# Altium schematic symbol library 自用.SchLib: 234 symbols (part 2 of 3)
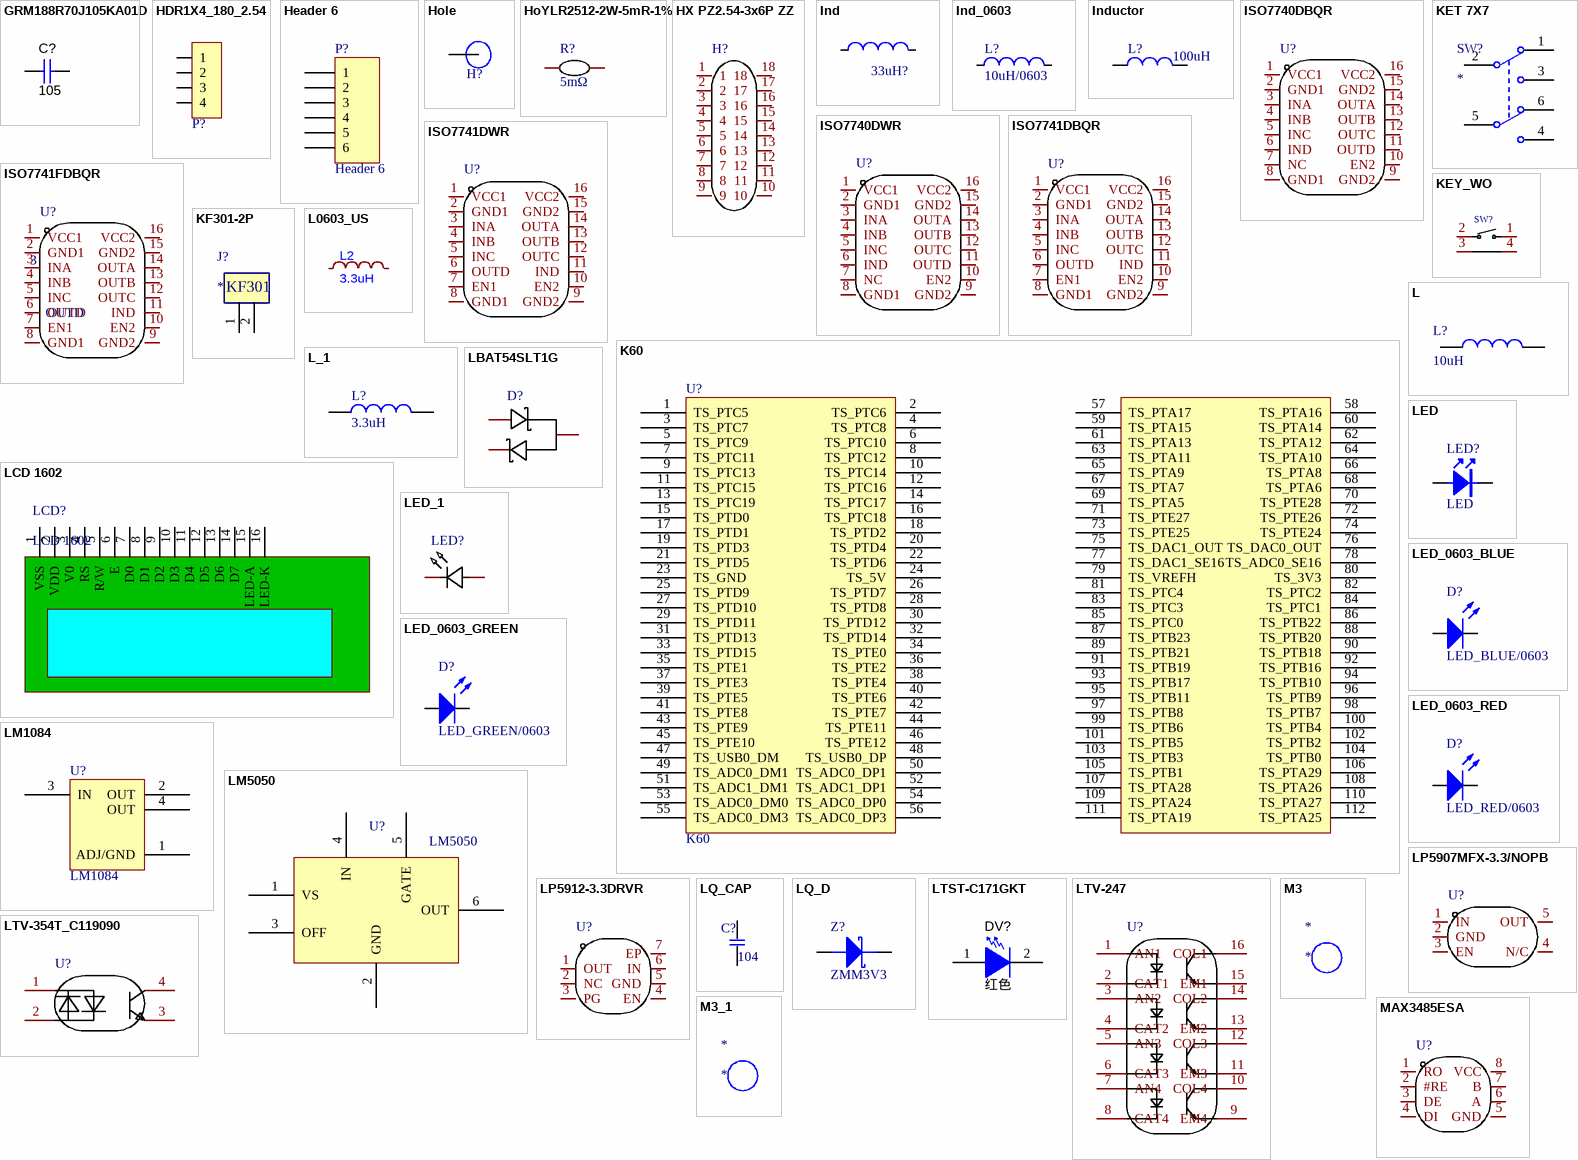
[diagram p9: symbols GRM188R70J105KA01D to MAX3485ESA]

## Inductor
designator L?  value 100uH  (hidden comment: Inductor)
电感; Code_IEC: 1005; Published: 8-Jun-2000; LatestRevisionDate: 17-Jul-2002; LatestRevisionNote: Re-released for DXP Platform.; PackageReference: 0402-A; Publisher: Altium Limited; Code_JEITA: 0402
footprint L_26C (贴片扁铜线电感)
footprint 一体成型17x17电感
footprint CD43 (4.5*4*3)
footprint CD106 (10*9*6.5mm（长宽高）)
footprint L 0402 (小功率贴片电感)
footprint L 0603 (小功率贴片电感)
footprint L 0805 (小功率贴片电感)
footprint L 1206 (小功率贴片电感)
footprint L 1210 (小功率贴片电感)
footprint L 1806 (小功率贴片电感)
footprint L 1812 (小功率贴片电感)
footprint L-SMD-0630 (一体化成型电感)
footprint 磁棒滤波电感 (1uH-1.2线-6.5圈-6*15)
footprint CDRH74 (7.3*7.3*4.5mm（长宽高）)
footprint CDRH127 (12*12*8mm（长宽高）)
footprint CD54 (5.8*5.2*4.5mm（长宽高）)
footprint 磁环电感-37mm (大电流磁环电感)
footprint L1809 (18.2*18.2*9mm)
footprint CD-54
pins: 1, 2

## ISO7740DBQR
designator U?  (value not drawn)
ISO7740 EMC 性能优异的四通道、4/0、增强型数字隔离器; Manufacturer: TI(德州仪器); Add into BOM: yes; Number of Forward Channels: 4; Number of Reverse Channels: 0; Data Rate(Max): 100Mbps; Isolation Voltage(Vrms): 3000; CMTI(kV/us): 100kV/us; Voltage - Supply(VCCA): 2.25V~5.5V; Propagation Delay(tpd): 10.7ns; Symbol: ISO7740DBQR; Device: ISO7740DBQR; LCSC Part Name: EMC性能优异的增强型高速四通道数字隔离器; Supplier Part: C2877511; Manufacturer Part: ISO7740DBQR; Supplier Footprint: SSOP-16-150mil; JLCPCB Part Class: Extended Part; Datasheet: https://www.ti.com/cn/lit/gpn/iso7740; Supplier: LCSC; Convert to PCB: yes; Default Output: -; Operating Temperature: -55~+125; Voltage - Supply(VCCB): 2.25V~5.5V
footprint SSOP-16_L4.9-W3.9-P0.64-LS6.0-BL
3D model SSOP-16_L4.9-W3.9-H1.75-LS6.0_P0.64
pins: 1 VCC1, 2 GND1, 3 INA, 4 INB, 5 INC, 6 IND, 7 NC, 8 GND1, 9 GND2, 10 EN2, 11 OUTD, 12 OUTC, 13 OUTB, 14 OUTA, 15 GND2, 16 VCC2

## ISO7740DWR
designator U?  (value not drawn)
ISO7740 EMC 性能优异的四通道、4/0、增强型数字隔离器; Manufacturer: TI(德州仪器); Add into BOM: yes; Number of Forward Channels: 4; Number of Reverse Channels: 0; Data Rate(Max): 100Mbps; Default Output: 高电平; Isolation Voltage(Vrms): 5000; CMTI(kV/us): 100kV/us; Voltage - Supply(VCCA): 2.25V~5.5V; Propagation Delay(tpd): 10.7ns; Symbol: ISO7740DWR; Device: ISO7740DWR; LCSC Part Name: 具有优异EMC性能的高速四通道增强型和基本型数字隔离器; Supplier Part: C529547; Manufacturer Part: ISO7740DWR; Supplier Footprint: SOIC-16-300mil; JLCPCB Part Class: Extended Part; Datasheet: https://www.ti.com/cn/lit/gpn/iso7740; Supplier: LCSC; Convert to PCB: yes; Operating Temperature: -55~+125; Voltage - Supply(VCCB): 2.25V~5.5V
footprint SOIC-16_L10.3-W7.5-P1.27-LS10.3-BL
3D model SOIC-16_L10.3-W7.5-H2.7-LS10.3-P1.27
pins: 1 VCC1, 2 GND1, 3 INA, 4 INB, 5 INC, 6 IND, 7 NC, 8 GND1, 9 GND2, 10 EN2, 11 OUTD, 12 OUTC, 13 OUTB, 14 OUTA, 15 GND2, 16 VCC2

## ISO7741DBQR
designator U?  (value not drawn)
ISO7741 EMC 性能优异的四通道、3/1、增强型数字隔离器; Manufacturer: TI(德州仪器); Add into BOM: yes; Number of Forward Channels: 3; Number of Reverse Channels: 1; Data Rate(Max): 100Mbps; Default Output: 高电平; Isolation Voltage(Vrms): 3000; CMTI(kV/us): 100kV/us; Voltage - Supply(VCCA): 2.25V~5.5V; Propagation Delay(tpd): 10.7ns; Symbol: ISO7741DBQR; Device: ISO7741DBQR; LCSC Part Name: EMC性能优异的增强型高速四通道数字隔离器; Supplier Part: C913840; Manufacturer Part: ISO7741DBQR; Supplier Footprint: SSOP-16-150mil; JLCPCB Part Class: Extended Part; Datasheet: https://www.ti.com/cn/lit/gpn/iso7740; Supplier: LCSC; Convert to PCB: yes; Operating Temperature: -55~+125; Voltage - Supply(VCCB): 2.25V~5.5V
footprint SSOP-16_L4.9-W3.9-P0.64-LS6.0-BL
3D model SSOP-16_L4.9-W3.9-H1.75-LS6.0_P0.64
pins: 1 VCC1, 2 GND1, 3 INA, 4 INB, 5 INC, 6 OUTD, 7 EN1, 8 GND1, 9 GND2, 10 EN2, 11 IND, 12 OUTC, 13 OUTB, 14 OUTA, 15 GND2, 16 VCC2

## ISO7741DWR
designator U?  (value not drawn)
ISO7741 EMC 性能优异的四通道、3/1、增强型数字隔离器; Manufacturer: TI(德州仪器); Add into BOM: yes; Number of Forward Channels: 3; Number of Reverse Channels: 1; Data Rate(Max): 100Mbps; Default Output: 高电平; Isolation Voltage(Vrms): 5000; CMTI(kV/us): 100kV/us; Voltage - Supply(VCCA): 2.25V~5.5V; Propagation Delay(tpd): 10.7ns; Symbol: ISO7741DWR; Device: ISO7741DWR; LCSC Part Name: ISOW774x 高速、强抗电磁干扰增强型和基本型四通道数字隔离器; Supplier Part: C571196; Manufacturer Part: ISO7741DWR; Supplier Footprint: SOIC-16-300mil; JLCPCB Part Class: Extended Part; Datasheet: https://www.ti.com/cn/lit/gpn/iso7741; Supplier: LCSC; Convert to PCB: yes; Operating Temperature: -55~+125; Voltage - Supply(VCCB): 2.25V~5.5V
footprint SOIC-16_L10.3-W7.5-P1.27-LS10.3-BL
3D model SOIC-16_L10.3-W7.5-H2.7-LS10.3-P1.27
pins: 1 VCC1, 2 GND1, 3 INA, 4 INB, 5 INC, 6 OUTD, 7 EN1, 8 GND1, 9 GND2, 10 EN2, 11 IND, 12 OUTC, 13 OUTB, 14 OUTA, 15 GND2, 16 VCC2

## ISO7741FDBQR
designator U?  NAME: OUTD  NUMBER: 3  (hidden comment: ISO7741FDBQR)
ISO7741 EMC 性能优异的四通道、3/1、增强型数字隔离器; Manufacturer: TI(德州仪器); Add into BOM: yes; Number of Reverse Channels: 1; Data Rate(Max): 100Mbps; Isolation Voltage(Vrms): 3000; CMTI(kV/us): 100kV/us; Voltage - Supply(VCCA): 2.25V~5.5V; Propagation Delay(tpd): 10.7ns; Symbol: ISO7741FDBQR; Device: ISO7741FDBQR; LCSC Part Name: EMC性能优异的增强型高速四通道数字隔离器; Supplier Part: C2872241; Manufacturer Part: ISO7741FDBQR; Supplier Footprint: SSOP-16-150mil; JLCPCB Part Class: Extended Part; Datasheet: https://www.ti.com/cn/lit/gpn/iso7740; Supplier: LCSC; Convert to PCB: yes; Number of Forward Channels: 3; Default Output: -; Operating Temperature: -55~+125; Voltage - Supply(VCCB): 2.25V~5.5V
footprint SSOP-16_L4.9-W3.9-P0.64-LS6.0-BL
3D model SSOP-16_L4.9-W3.9-H1.75-LS6.0_P0.64
pins: 1 VCC1, 2 GND1, 3 INA, 4 INB, 5 INC, 6 OUTD, 7 EN1, 8 GND1, 9 GND2, 10 EN2, 11 IND, 12 OUTC, 13 OUTB, 14 OUTA, 15 GND2, 16 VCC2

## K60
designator U?
NXPK60芯片
footprint CONN-TH_XT30UPB-M
pins: 1 TS_PTC5, 2 TS_PTC6, 3 TS_PTC7, 4 TS_PTC8, 5 TS_PTC9, 6 TS_PTC10, 7 TS_PTC11, 8 TS_PTC12, 9 TS_PTC13, 10 TS_PTC14, 11 TS_PTC15, 12 TS_PTC16, 13 TS_PTC19, 14 TS_PTC17, 15 TS_PTD0, 16 TS_PTC18, 17 TS_PTD1, 18 TS_PTD2, 19 TS_PTD3, 20 TS_PTD4, 21 TS_PTD5, 22 TS_PTD6, 23 TS_GND, 24 TS_5V, 25 TS_PTD9, 26 TS_PTD7, 27 TS_PTD10, 28 TS_PTD8, 29 TS_PTD11, 30 TS_PTD12, 31 TS_PTD13, 32 TS_PTD14, 33 TS_PTD15, 34 TS_PTE0, 35 TS_PTE1, 36 TS_PTE2, 37 TS_PTE3, 38 TS_PTE4, 39 TS_PTE5, 40 TS_PTE6, 41 TS_PTE8, 42 TS_PTE7, 43 TS_PTE9, 44 TS_PTE11, 45 TS_PTE10, 46 TS_PTE12, 47 TS_USB0_DM, 48 TS_USB0_DP, 49 TS_ADC0_DM1, 50 TS_ADC0_DP1, 51 TS_ADC1_DM1, 52 TS_ADC1_DP1, 53 TS_ADC0_DM0, 54 TS_ADC0_DP0, 55 TS_ADC0_DM3, 56 TS_ADC0_DP3, 57 TS_PTA17, 58 TS_PTA16, 59 TS_PTA15, 60 TS_PTA14, 61 TS_PTA13, 62 TS_PTA12, 63 TS_PTA11, 64 TS_PTA10, 65 TS_PTA9, 66 TS_PTA8, 67 TS_PTA7, 68 TS_PTA6, 69 TS_PTA5, 70 TS_PTE28, 71 TS_PTE27, 72 TS_PTE26, 73 TS_PTE25, 74 TS_PTE24, 75 TS_DAC1_OUT, 76 TS_DAC0_OUT, 77 TS_DAC1_SE16, 78 TS_ADC0_SE16, 79 TS_VREFH, 80 TS_3V3, 81 TS_PTC4, 82 TS_PTC2, 83 TS_PTC3, 84 TS_PTC1, 85 TS_PTC0, 86 TS_PTB22, 87 TS_PTB23, 88 TS_PTB20, 89 TS_PTB21, 90 TS_PTB18, 91 TS_PTB19, 92 TS_PTB16, 93 TS_PTB17, 94 TS_PTB10, 95 TS_PTB11, 96 TS_PTB9, 97 TS_PTB8, 98 TS_PTB7, 99 TS_PTB6, 100 TS_PTB4, 101 TS_PTB5, 102 TS_PTB2, 103 TS_PTB3, 104 TS_PTB0, 105 TS_PTB1, 106 TS_PTA29, 107 TS_PTA28, 108 TS_PTA26, 109 TS_PTA24, 110 TS_PTA27, 111 TS_PTA19, 112 TS_PTA25

## KET 7X7
designator SW?
7*7自锁开关; 版权归属: 源创客; BOM名称: 7*7自锁开关; 学习资源: www.ooocke.com
footprint KFT DIP-7X7 (自锁开关，规格：7*7mm)
footprint KFT DIP-8X8 (自锁开关，规格：8*8mm)
pins: 1 NC1, 2 COM2, 3 NO1, 4 NO2, 5 COM2, 6 NC2

## KEY_WO
designator SW?, comment TC-6615-7-260G  (value not drawn)
触点电流:50mA;额定电压(AC):-;额定电压(DC):12V;额定功率:-;绝缘电阻:-;电路结构:单刀单掷;安装方式:卧插;带灯:-;作用力:260gf@±50gf;机械寿命:-;带支架:-;; Manufacturer: HCTL(华灿天禄); Add into BOM: yes; Contact Current: 50mA; Voltage Rating (DC): 12V; Circuit: 单刀单掷; Switch Length: 6mm; Switch Height: 7mm; Symbol: TC-6615-7-260G; Device: TC-6615-7-260G; LCSC Part Name: 轻触6*6*7支架 插件260g; Supplier Part: C2845275; Manufacturer Part: TC-6615-7-260G; Supplier Footprint: 插件; JLCPCB Part Class: Extended Part; Supplier: LCSC; Convert to PCB: yes; Voltage Rating (AC): -; Power Rating: -; Insulation Resistance: -; Mounting Style: 卧插; Actuator Style: -; Actuator/Cap Color: -; With Lamp: -; Operating Force: 260gf@±50gf; Mechanical Life: -; Operating Temperature: -; IP Rating: -; Pin Style: -; Switch Width: 6mm; Strike Gundam: -
3D model KEY-TH_TC-6615-7-160G
footprint KEY_WO
pins: 1, 2, 3, 4

## KF301-2P
designator J?
footprint KF301-5.0-2P (可拼接端子/6A)
pins: 1, 2
text: KF301

## L
designator L?, comment 10uH
电感; BOM名称: 小功率贴片电感; 版权归属: 源创客; 学习资源: www.ooocke.com
footprint L 0603 (小功率贴片电感)
footprint L 0805 (小功率贴片电感)
footprint AL0510 (16*5*10.5mm（脚距，直径，长度）)
footprint 飞卡电感
pins: 1, 2

## L0603_US
designator L2, comment 3.3uH
footprint IND-SMD_L7.8-W7.0_MAPM0630F
pins: 1, 2

## L_1
designator L?, comment 3.3uH
电感; BOM名称: 小功率贴片电感; 版权归属: 源创客; 学习资源: www.ooocke.com
footprint L 0603 (小功率贴片电感)
footprint L 0805 (小功率贴片电感)
footprint AL0510 (16*5*10.5mm（脚距，直径，长度）)
footprint 飞卡电感
footprint CDRH74 (7.3*7.3*4.5mm（长宽高）)
footprint 0630-L
footprint IND-SMD_L7.8-W7.0_MAPM0630F
pins: 1, 2

## LBAT54SLT1G
designator D?  (value not drawn)
正向压降(Vf):400mV;直流反向耐压(Vr):30V;整流电流:200mA;; Manufacturer: LRC(乐山无线电); Add into BOM: yes; Voltage - Forward(Vf@If): 400mV; Voltage - DC Reverse(Vr): 30V; Current - Rectified: 200mA; Reverse Leakage Current (Ir): 2uA; Non-Repetitive Peak Forward Surge Current: 600mA; Symbol: LBAT54SLT1G; Device: LBAT54SLT1G; LCSC Part Name: 电压:30V 电流:200mA; Supplier Part: C12765; Manufacturer Part: LBAT54SLT1G; Supplier Footprint: SOT-23; JLCPCB Part Class: Extended Part; Datasheet: https://item.szlcsc.com/datasheet/LBAT54SLT1G/13406.html; Supplier: LCSC; Convert to PCB: yes
footprint SOT-23_L2.9-W1.3-P1.90-LS2.4-BR
3D model SOT-23-3P_L2.9-W1.3-H1.0-LS2.4-P0.95
pins: 1 A, 2 K, 3 AK

## LCD 1602
designator LCD?
版权归属: 源创客; BOM名称: LCD 1602; 学习资源: www.ooocke.com
footprint LCD-1602 (LCD module 16*2 char)
pins: 1 VSS, 2 VDD, 3 V0, 4 RS, 5 R/W, 6 E, 7 D0, 8 D1, 9 D2, 10 D3, 11 D4, 12 D5, 13 D6, 14 D7, 15 LED-A, 16 LED-K

## LED
designator LED?
发光二极管
footprint LED 3MM-W (白色3mm直插LED)
footprint LED 5MM-Y (黄色5mm直插LED)
footprint LED 0603B (蓝色0603LED)
footprint LED 0805W (白色0805LED)
footprint LED 1206W (白色1206LED)
pins: 1, 2
2 alternate drawings of the same symbol

## LED_1
designator LED?, comment XL-1005SURC  (value not drawn)
发光颜色:红色;功率:55mW;正向电流:25mA;主波长:620nm;透镜颜色:无色透明透镜;色温:6000K~7000K;发光角度:120°;载带方式:正贴;工作温度:-30~+85;; Manufacturer: XINGLIGHT(成兴光); Add into BOM: yes; Emitted Color: 红色; Power Dissipation: 55mW; Forward Current: 25mA; Dominant Wavelength: 620nm; Peak Wavelength: 625nm; Lens Color: 无色透明透镜; Viewing Angle: 120°; Mounting Sytle: 正贴; Symbol: XL-1005SURC; Device: XL-1005SURC; LCSC Part Name: XL-1005SURC; Supplier Part: C965790; Manufacturer Part: XL-1005SURC; Supplier Footprint: 0402; JLCPCB Part Class: Extended Part; Datasheet: https://atta.szlcsc.com/upload/public/pdf/source/20221102/EBA3AB29C2D5B62EE70B36967F8F8809.pdf; Supplier: LCSC; Convert to PCB: yes; Color Temperature: 6000K~7000K; Operating Temperature: -30~+85
footprint LED0402-R-RD_RED
3D model LED0402_L1.0-W0.5-H0.4
pins: 1 K, 2 A

## LED_0603_BLUE
designator D?  value LED_BLUE/0603  (hidden comment: LED_0603_BLUE)
LED
footprint LED_0603_BLUE (Chip Capacitor, 2-Leads, Body 1.6x0.8mm, IPC Medium Density)
pins: 1 A, 2 K

## LED_0603_GREEN
designator D?  value LED_GREEN/0603  (hidden comment: LED_0603_GREEN)
LED
footprint LED_0603_GREEN (Chip Capacitor, 2-Leads, Body 1.6x0.8mm, IPC Medium Density)
pins: 1 A, 2 K

## LED_0603_RED
designator D?  value LED_RED/0603  (hidden comment: LED_0603_RED)
LED
footprint LED_0603_RED (Chip Capacitor, 2-Leads, Body 1.6x0.8mm, IPC Medium Density)
pins: 1 A, 2 K

## LM1084
designator U?
-5,-3.3,-ADJ
footprint TO263-3A (263，3脚晶体管)
pins: 1 ADJ/GND, 2 OUT, 3 IN, 4 OUT

## LM5050
designator U?
High-Side OR-ing FET Controller
footprint SOT23-6
pins: 1 VS, 2 GND, 3 OFF, 4 IN, 5 GATE, 6 OUT

## LP5907MFX-3.3/NOPB
designator U?  (value not drawn)
输出类型:固定;最大输入电压:5.5V;输出电压:3.3V;输出电流:250mA;电源纹波抑制比(PSRR):90dB@(100Hz)；60dB@(100kHz);输出极性:正极;; Manufacturer: TI(德州仪器); Add into BOM: yes; Output Type: 固定; Maximum Input Voltage: 5.5V; Output Voltage: 3.3V; Output Current: 250mA; Dropout Voltage: 250mV@(250mA); standby current: 25uA; Output Polarity: 正极; Number of Outputs: 1; Symbol: LP5907MFX-3.3/NOPB; Device: LP5907MFX-3.3/NOPB; LCSC Part Name: 具有低 IQ 和使能功能的 250mA、低噪声、高 PSRR、超低压降稳压器; Supplier Part: C80670; Manufacturer Part: LP5907MFX-3.3/NOPB; Supplier Footprint: SOT-23-5; JLCPCB Part Class: Extended Part; Datasheet: https://www.ti.com/cn/lit/gpn/lp5907; Supplier: LCSC; Convert to PCB: yes; Power Supply Rejection Ratio (PSRR): 90dB@(100Hz)；60dB@(100kHz); Feature: 防静电保护；短路保护；自动放电功能；低ESR；热保护(TSD)；欠压闭锁；带使能; Operating Temperature: -40~+125
footprint SOT-23-5_L3.0-W1.7-P0.95-LS2.8-BR
3D model SOT-23-5_L2.9-W1.6-H1.1-LS2.8-P0.95
pins: 1 IN, 2 GND, 3 EN, 4 N/C, 5 OUT

## LP5912-3.3DRVR
designator U?  (value not drawn)
输出类型:固定;最大输入电压:6.5V;输出电压:3.3V;输出电流:500mA;输出极性:正极;; Manufacturer: TI(德州仪器); Add into BOM: yes; Output Type: 固定; Maximum Input Voltage: 6.5V; Output Voltage: 3.3V; Output Current: 500mA; Dropout Voltage: 180mV@(500mA); standby current: 55uA; Output Polarity: 正极; Number of Outputs: 1; Symbol: LP5912-3.3DRVR; Device: LP5912-3.3DRVR; LCSC Part Name: 具有反向电流保护功能的 500mA、低噪声、低 IQ、低压降稳压器; Supplier Part: C524780; Manufacturer Part: LP5912-3.3DRVR; Supplier Footprint: WSON-6-EP(2x2); JLCPCB Part Class: Extended Part; Datasheet: https://www.ti.com/cn/lit/gpn/lp5912; Supplier: LCSC; Convert to PCB: yes; Feature: 防静电保护；短路保护；自动放电功能；低ESR；热保护(TSD)；欠压闭锁；过流保护(OCP)；带使能；防倒灌; Operating Temperature: -40~+125@(Tj)
footprint WSON-6_L2.0-W2.0-P0.65-TL-EP
3D model WSON-6_L2.0-W2.0-H0.8-P0.65
pins: 1 OUT, 2 NC, 3 PG, 4 EN, 5 GND, 6 IN, 7 EP

## LQ_CAP
designator C?, comment 104
CAP
footprint LQ_0805
footprint LQ_C0603
footprint LQ_1206
footprint LQ_1210
pins: 1, 2

## LQ_D
designator Z?, comment ZMM3V3
Schottky Diode
footprint LQ_1206
footprint LQ_1812
footprint LQ_1206D
pins: 1, 2 1

## LTST-C171GKT
designator DV?, comment 红色
Manufacturer: Lite-On; PartNumber: LTST-C171GKT; CompType: LED; Value: Green; Vf_V: 2.1; Value2: 2.1V; Io_A: 20; Value1: W; U/M: EA; SymbolVersion: 2008-12-08; MountType: SMT; RoHS: Y; PackageReference: LED_0805; Type: AlInGaP; Color: green; Published: 2008-07-11; Publisher: Texas Instruments; ComponentLink1URL: https://sps06.itg.ti.com/sites/KMS/crossdivteams/altium/docs/ComponentDatasheets/LTST-C171GKT.pdf; ComponentLink1Description: Datasheet link; LatestRevisionDate: 2013-09-07; Supplier 1: Digi-Key; Supplier Part Number 1: 160-1423-1-ND; Supplier 2: Mouser; Supplier Part Number 2: 859-LTST-C171GKT
signal-integrity model Diode
footprint LED_LTST-C171
footprint LQ_LED0603R
pins: 1 A, 2 K

## LTV-247
designator U?  (value not drawn)
输入类型:DC;正向压降(Vf):1.2V;输出电流:50mA;隔离电压(Vrms):3.75kV;直流反向耐压(Vr):6V;负载电压:80V;输出通道数:1;集射极饱和电压(VCE(sat)):400mV@2.4mA,8mA;; Manufacturer: LITEON(光宝); Add into BOM: yes; Input type: DC; Output Type: 光电三极管; Voltage - Forward(Vf): 1.2V; Output Current: 50mA; Isolation Voltage(Vrms): 3.75kV; Reverse Voltage: 6V; Load Voltage: 80V; Number of Outputs: 1; Fall time: 3us; Current Transfer Ratio (CTR) Minimum: 100%; Current Transfer Ratio (CTR) Maximum/Saturation Value: 600%; Total Power Dissipation(Pd): 170mW; Symbol: LTV-247; Device: LTV-247; LCSC Part Name: DC输入 隔离电压(rms):3750V; Supplier Part: C115451; Manufacturer Part: LTV-247; Supplier Footprint: SOP-16-5.4mm; JLCPCB Part Class: Extended Part; Datasheet: https://item.szlcsc.com/datasheet/LTV-247/116699.html; Supplier: LCSC; Convert to PCB: yes; Vce Saturation(VCE(sat)): 400mV@2.4mA,8mA; Rise time: -; Operating Temperature: -55~+110; Forward Current(If): 50mA
footprint SOP-16_L10.3-W5.4-P1.27-LS7.8-BL
3D model SOP-16_L10.0-W4.4-H1.9-LS6.3-P1.27
pins: 1 AN1, 2 CAT1, 3 AN2, 4 CAT2, 5 AN3, 6 CAT3, 7 AN4, 8 CAT4, 9 EM4, 10 COL4, 11 EM3, 12 COL3, 13 EM2, 14 COL2, 15 EM1, 16 COL1

## LTV-354T_C119090
designator U?  (value not drawn)
输入类型:AC,DC;正向压降(Vf):1.2V;输出电流:50mA;隔离电压(Vrms):3.75kV;直流反向耐压(Vr):-;负载电压:35V;输出通道数:1;集射极饱和电压(VCE(sat)):100mV@20mA,1mA;; Manufacturer: LITEON(光宝); Add into BOM: yes; Input type: AC,DC; Output Type: 光电三极管; Voltage - Forward(Vf): 1.2V; Output Current: 50mA; Isolation Voltage(Vrms): 3.75kV; Load Voltage: 35V; Number of Outputs: 1; Rise time: 4us; Fall time: 3us; Current Transfer Ratio (CTR) Minimum: 20%; Current Transfer Ratio (CTR) Maximum/Saturation Value: 400%; Total Power Dissipation(Pd): 170mW; Symbol: LTV-354T; Device: LTV-354T_C119090; LCSC Part Name: AC,DC输入 隔离电压(rms):3750V; Supplier Part: C119090; Manufacturer Part: LTV-354T; Supplier Footprint: SOP-4-2.54mm; JLCPCB Part Class: Extended Part; Datasheet: https://item.szlcsc.com/datasheet/LTV-354T/120359.html; Supplier: LCSC; Convert to PCB: yes; Reverse Voltage: -; Vce Saturation(VCE(sat)): 100mV@20mA,1mA; Operating Temperature: -55~+100; Forward Current(If): 50mA
footprint SOP-4_L4.4-W3.9-P2.54-LS7.0-TL
3D model SOP-4_L4.4-W3.9-P2.54-LS7.0-TL
pins: 1 A/C, 2 C/A, 3 EM, 4 COL

## M3
designator *
铜柱孔; 版权归属: 源创客; BOM名称: 铜柱孔; 学习资源: www.ooocke.com
footprint M3 140X350 (M3螺丝孔，孔140Mil，焊盘350Mil)
footprint M3 125X300 (M3螺丝孔，孔125Mil，焊盘300Mil)
footprint M3 125X200 (M3螺丝孔，孔125Mil，焊盘200Mil)

## M3_1
designator *
铜柱孔; 版权归属: 源创客; BOM名称: 铜柱孔; 学习资源: www.ooocke.com
footprint M3 140X350 (M3螺丝孔，孔140Mil，焊盘350Mil)
footprint M3 125X300 (M3螺丝孔，孔125Mil，焊盘300Mil)
footprint M3 125X200 (M3螺丝孔，孔125Mil，焊盘200Mil)
footprint M3 125X250 (M3螺丝孔，孔125Mil，焊盘300Mil)
pins: 1

## MAX3485ESA
designator U?  (value not drawn)
类型:收发器;数据速率:12Mbps;驱动器/接收器:1/1;; Manufacturer: UMW(友台半导体); Add into BOM: yes; Types: 收发器; Supply Voltage: 2.97V~3.63V; Data Rate: 12Mbps; Driver/receiver: 1/1; Symbol: MAX3485ESA; Device: MAX3485ESA; LCSC Part Name: MAX3485ESA; Supplier Part: C668204; Manufacturer Part: MAX3485ESA; Supplier Footprint: SOP-8; JLCPCB Part Class: Extended Part; Datasheet: https://atta.szlcsc.com/upload/public/pdf/source/20231109/DDD7CD3D891754087D6BC3897133907F.pdf; Supplier: LCSC; Convert to PCB: yes; Operating Temperature: -40~+85
footprint SOP-8_L5.0-W4.0-P1.27-LS6.0-BL (Footprint not found)
3D model SOP-8_L5.0-W4.0-H1.8-LS6.2-P1.27
pins: 1 RO, 2 #RE, 3 DE, 4 DI, 5 GND, 6 A, 7 B, 8 VCC

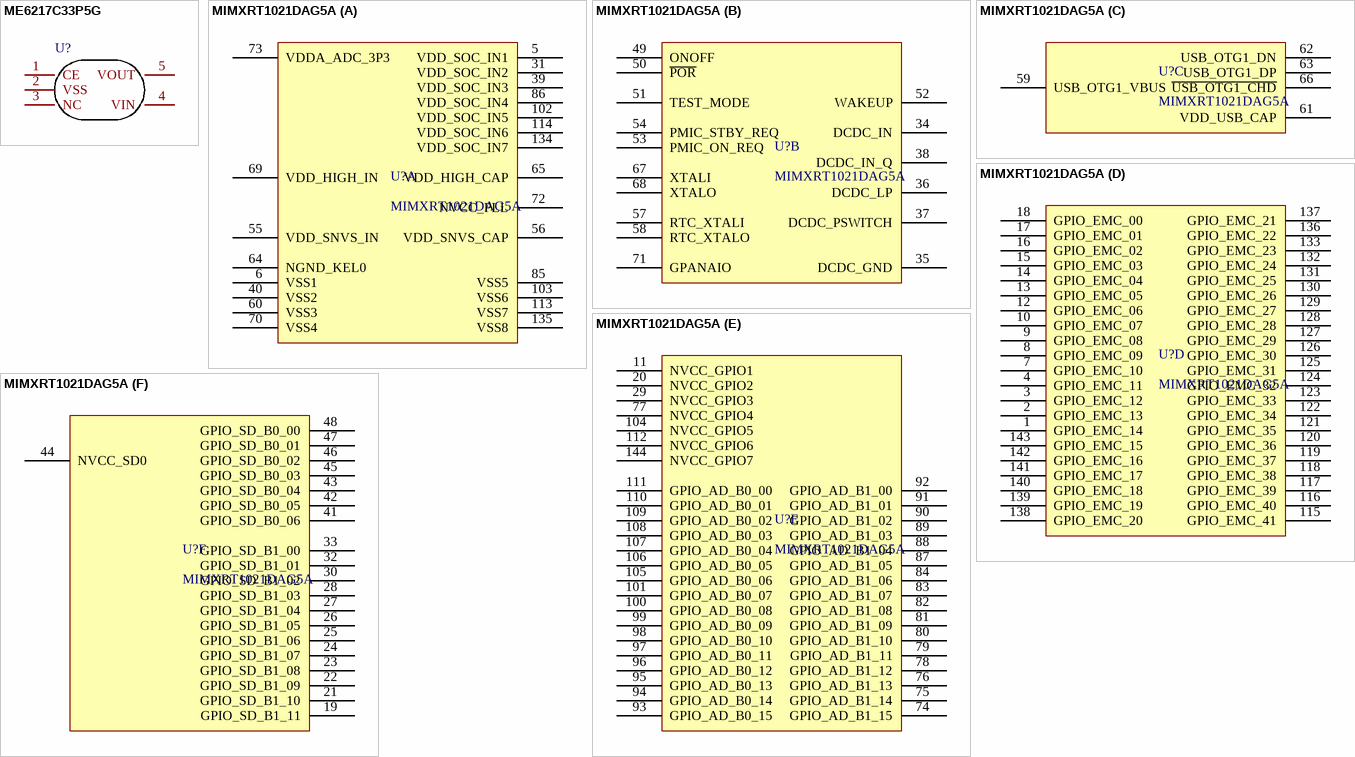
[diagram p3: symbols ME6217C33P5G to MIMXRT1021DAG5A]

## ME6217C33P5G
designator U?  (value not drawn)
输出类型:固定;工作电压:6.5V;输出电压:3.3V;输出电流:800mA;电源纹波抑制比(PSRR):65dB@(1kHz);输出极性:正极;; Manufacturer: MICRONE(南京微盟); Add into BOM: yes; Output Type: 固定; Voltage - Supply: 6.5V; Output Voltage: 3.3V; Output Current: 800mA; Voltage Dropout: 100mV@(300mA); standby current: 100uA; Output Configuration: 正极; Number of Outputs: 1; Symbol: ME6217C33P5G; Device: ME6217C33P5G; LCSC Part Name: 输入6.5V 输出3.3V 800mA; Supplier Part: C81592; Manufacturer Part: ME6217C33P5G; Supplier Footprint: SOT-89-5; JLCPCB Part Class: Extended Part; Datasheet: https://item.szlcsc.com/datasheet/ME6217C33P5G/82744.html; Supplier: LCSC; Convert to PCB: yes; Power Supply Rejection Ratio (PSRR): 65dB@(1kHz); Features: 过热保护；过流保护; Operating Temperature: -40~+85
footprint SOT-89-5_L4.5-W2.5-P1.50-LS4.5-BR
3D model SOT-89-5_L4.5-W2.5-H1.5-LS4.1-P1.50
pins: 1 CE, 2 VSS, 3 NC, 4 VIN, 5 VOUT

## MIMXRT1021DAG5A
designator U?
MIMXRT1021DAG5A 分体式原理
footprint LQFP144_N (Footprint not found)
part A pins: 5 VDD_SOC_IN1, 6 VSS1, 31 VDD_SOC_IN2, 39 VDD_SOC_IN3, 40 VSS2, 55 VDD_SNVS_IN, 56 VDD_SNVS_CAP, 60 VSS3, 64 NGND_KEL0, 65 VDD_HIGH_CAP, 69 VDD_HIGH_IN, 70 VSS4, 72 NVCC_PLL, 73 VDDA_ADC_3P3, 85 VSS5, 86 VDD_SOC_IN4, 102 VDD_SOC_IN5, 103 VSS6, 113 VSS7, 114 VDD_SOC_IN6, 134 VDD_SOC_IN7, 135 VSS8
part B pins: 34 DCDC_IN, 35 DCDC_GND, 36 DCDC_LP, 37 DCDC_PSWITCH, 38 DCDC_IN_Q, 49 ONOFF, 50 ~{POR}, 51 TEST_MODE, 52 WAKEUP, 53 PMIC_ON_REQ, 54 PMIC_STBY_REQ, 57 RTC_XTALI, 58 RTC_XTALO, 67 XTALI, 68 XTALO, 71 GPANAIO
part C pins: 59 USB_OTG1_VBUS, 61 VDD_USB_CAP, 62 USB_OTG1_DN, 63 USB_OTG1_DP, 66 ~{USB_OTG1_CHD}
part D pins: 1 GPIO_EMC_14, 2 GPIO_EMC_13, 3 GPIO_EMC_12, 4 GPIO_EMC_11, 7 GPIO_EMC_10, 8 GPIO_EMC_09, 9 GPIO_EMC_08, 10 GPIO_EMC_07, 12 GPIO_EMC_06, 13 GPIO_EMC_05, 14 GPIO_EMC_04, 15 GPIO_EMC_03, 16 GPIO_EMC_02, 17 GPIO_EMC_01, 18 GPIO_EMC_00, 115 GPIO_EMC_41, 116 GPIO_EMC_40, 117 GPIO_EMC_39, 118 GPIO_EMC_38, 119 GPIO_EMC_37, 120 GPIO_EMC_36, 121 GPIO_EMC_35, 122 GPIO_EMC_34, 123 GPIO_EMC_33, 124 GPIO_EMC_32, 125 GPIO_EMC_31, 126 GPIO_EMC_30, 127 GPIO_EMC_29, 128 GPIO_EMC_28, 129 GPIO_EMC_27, 130 GPIO_EMC_26, 131 GPIO_EMC_25, 132 GPIO_EMC_24, 133 GPIO_EMC_23, 136 GPIO_EMC_22, 137 GPIO_EMC_21, 138 GPIO_EMC_20, 139 GPIO_EMC_19, 140 GPIO_EMC_18, 141 GPIO_EMC_17, 142 GPIO_EMC_16, 143 GPIO_EMC_15
part E pins: 11 NVCC_GPIO1, 20 NVCC_GPIO2, 29 NVCC_GPIO3, 74 GPIO_AD_B1_15, 75 GPIO_AD_B1_14, 76 GPIO_AD_B1_13, 77 NVCC_GPIO4, 78 GPIO_AD_B1_12, 79 GPIO_AD_B1_11, 80 GPIO_AD_B1_10, 81 GPIO_AD_B1_09, 82 GPIO_AD_B1_08, 83 GPIO_AD_B1_07, 84 GPIO_AD_B1_06, 87 GPIO_AD_B1_05, 88 GPIO_AD_B1_04, 89 GPIO_AD_B1_03, 90 GPIO_AD_B1_02, 91 GPIO_AD_B1_01, 92 GPIO_AD_B1_00, 93 GPIO_AD_B0_15, 94 GPIO_AD_B0_14, 95 GPIO_AD_B0_13, 96 GPIO_AD_B0_12, 97 GPIO_AD_B0_11, 98 GPIO_AD_B0_10, 99 GPIO_AD_B0_09, 100 GPIO_AD_B0_08, 101 GPIO_AD_B0_07, 104 NVCC_GPIO5, 105 GPIO_AD_B0_06, 106 GPIO_AD_B0_05, 107 GPIO_AD_B0_04, 108 GPIO_AD_B0_03, 109 GPIO_AD_B0_02, 110 GPIO_AD_B0_01, 111 GPIO_AD_B0_00, 112 NVCC_GPIO6, 144 NVCC_GPIO7
part F pins: 19 GPIO_SD_B1_11, 21 GPIO_SD_B1_10, 22 GPIO_SD_B1_09, 23 GPIO_SD_B1_08, 24 GPIO_SD_B1_07, 25 GPIO_SD_B1_06, 26 GPIO_SD_B1_05, 27 GPIO_SD_B1_04, 28 GPIO_SD_B1_03, 30 GPIO_SD_B1_02, 32 GPIO_SD_B1_01, 33 GPIO_SD_B1_00, 41 GPIO_SD_B0_06, 42 GPIO_SD_B0_05, 43 GPIO_SD_B0_04, 44 NVCC_SD0, 45 GPIO_SD_B0_03, 46 GPIO_SD_B0_02, 47 GPIO_SD_B0_01, 48 GPIO_SD_B0_00

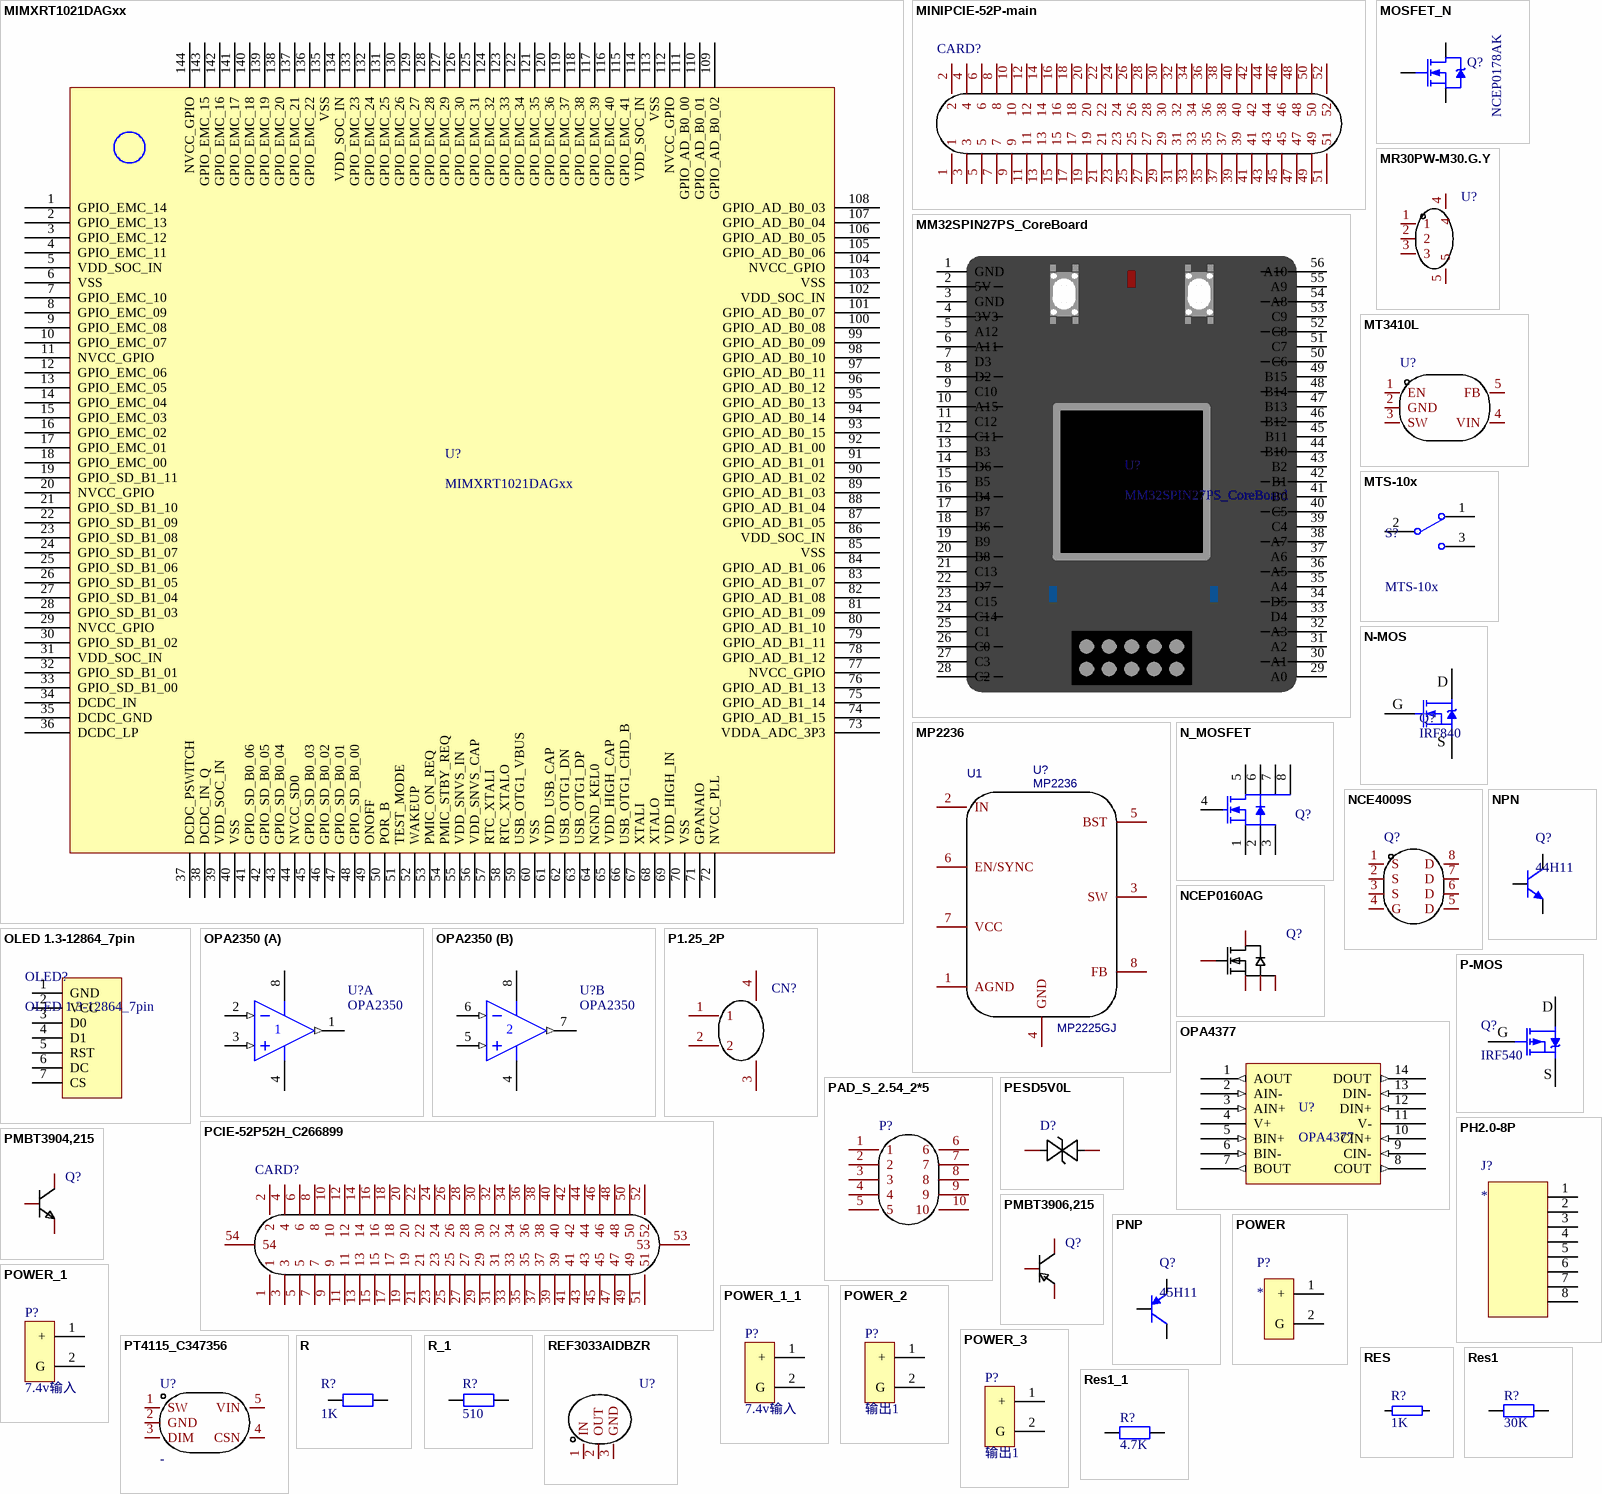
[diagram p4: symbols MIMXRT1021DAGxx to Res1_1]

## MIMXRT1021DAGxx
designator U?
MIMXRT1021DAGxx 整体式原理
footprint LQFP144_N (Footprint not found)
pins: 1 GPIO_EMC_14, 2 GPIO_EMC_13, 3 GPIO_EMC_12, 4 GPIO_EMC_11, 5 VDD_SOC_IN, 6 VSS, 7 GPIO_EMC_10, 8 GPIO_EMC_09, 9 GPIO_EMC_08, 10 GPIO_EMC_07, 11 NVCC_GPIO, 12 GPIO_EMC_06, 13 GPIO_EMC_05, 14 GPIO_EMC_04, 15 GPIO_EMC_03, 16 GPIO_EMC_02, 17 GPIO_EMC_01, 18 GPIO_EMC_00, 19 GPIO_SD_B1_11, 20 NVCC_GPIO, 21 GPIO_SD_B1_10, 22 GPIO_SD_B1_09, 23 GPIO_SD_B1_08, 24 GPIO_SD_B1_07, 25 GPIO_SD_B1_06, 26 GPIO_SD_B1_05, 27 GPIO_SD_B1_04, 28 GPIO_SD_B1_03, 29 NVCC_GPIO, 30 GPIO_SD_B1_02, 31 VDD_SOC_IN, 32 GPIO_SD_B1_01, 33 GPIO_SD_B1_00, 34 DCDC_IN, 35 DCDC_GND, 36 DCDC_LP, 37 DCDC_PSWITCH, 38 DCDC_IN_Q, 39 VDD_SOC_IN, 40 VSS, 41 GPIO_SD_B0_06, 42 GPIO_SD_B0_05, 43 GPIO_SD_B0_04, 44 NVCC_SD0, 45 GPIO_SD_B0_03, 46 GPIO_SD_B0_02, 47 GPIO_SD_B0_01, 48 GPIO_SD_B0_00, 49 ONOFF, 50 POR_B, 51 TEST_MODE, 52 WAKEUP, 53 PMIC_ON_REQ, 54 PMIC_STBY_REQ, 55 VDD_SNVS_IN, 56 VDD_SNVS_CAP, 57 RTC_XTALI, 58 RTC_XTALO, 59 USB_OTG1_VBUS, 60 VSS, 61 VDD_USB_CAP, 62 USB_OTG1_DN, 63 USB_OTG1_DP, 64 NGND_KEL0, 65 VDD_HIGH_CAP, 66 USB_OTG1_CHD_B, 67 XTALI, 68 XTALO, 69 VDD_HIGH_IN, 70 VSS, 71 GPANAIO, 72 NVCC_PLL, 73 VDDA_ADC_3P3, 74 GPIO_AD_B1_15, 75 GPIO_AD_B1_14, 76 GPIO_AD_B1_13, 77 NVCC_GPIO, 78 GPIO_AD_B1_12, 79 GPIO_AD_B1_11, 80 GPIO_AD_B1_10, 81 GPIO_AD_B1_09, 82 GPIO_AD_B1_08, 83 GPIO_AD_B1_07, 84 GPIO_AD_B1_06, 85 VSS, 86 VDD_SOC_IN, 87 GPIO_AD_B1_05, 88 GPIO_AD_B1_04, 89 GPIO_AD_B1_03, 90 GPIO_AD_B1_02, 91 GPIO_AD_B1_01, 92 GPIO_AD_B1_00, 93 GPIO_AD_B0_15, 94 GPIO_AD_B0_14, 95 GPIO_AD_B0_13, 96 GPIO_AD_B0_12, 97 GPIO_AD_B0_11, 98 GPIO_AD_B0_10, 99 GPIO_AD_B0_09, 100 GPIO_AD_B0_08, 101 GPIO_AD_B0_07, 102 VDD_SOC_IN, 103 VSS, 104 NVCC_GPIO, 105 GPIO_AD_B0_06, 106 GPIO_AD_B0_05, 107 GPIO_AD_B0_04, 108 GPIO_AD_B0_03, 109 GPIO_AD_B0_02, 110 GPIO_AD_B0_01, 111 GPIO_AD_B0_00, 112 NVCC_GPIO, 113 VSS, 114 VDD_SOC_IN, 115 GPIO_EMC_41, 116 GPIO_EMC_40, 117 GPIO_EMC_39, 118 GPIO_EMC_38, 119 GPIO_EMC_37, 120 GPIO_EMC_36, 121 GPIO_EMC_35, 122 GPIO_EMC_34, 123 GPIO_EMC_33, 124 GPIO_EMC_32, 125 GPIO_EMC_31, 126 GPIO_EMC_30, 127 GPIO_EMC_29, 128 GPIO_EMC_28, 129 GPIO_EMC_27, 130 GPIO_EMC_26, 131 GPIO_EMC_25, 132 GPIO_EMC_24, 133 GPIO_EMC_23, 134 VDD_SOC_IN, 135 VSS, 136 GPIO_EMC_22, 137 GPIO_EMC_21, 138 GPIO_EMC_20, 139 GPIO_EMC_19, 140 GPIO_EMC_18, 141 GPIO_EMC_17, 142 GPIO_EMC_16, 143 GPIO_EMC_15, 144 NVCC_GPIO

## MINIPCIE-52P-main
designator CARD?, comment PCIE-52P52H_C266899  (value not drawn)
金手指端; Manufacturer: XUNPU(讯普); Add into BOM: yes; Connector Type: mPCI-E; Pitch: 0.8mm; Symbol: PCIE-52P52H; Device: PCIE-52P52H_C266899; LCSC Part Name: 0.8mm P数:52P; Supplier Part: C266899; Manufacturer Part: PCIE-52P52H; Supplier Footprint: SMD,P=0.8mm; JLCPCB Part Class: Extended Part; Datasheet: https://atta.szlcsc.com/upload/public/pdf/source/20180820/C266899_13151B17022951BC233387EA8773A9D6.pdf; Supplier: LCSC; Convert to PCB: yes; Number of Pins: 52P; Mounting Style: 卧贴; Height Above Board: 5.2mm; Operating Temperature Range: -40~+85
3D model CONN-SMD_ 52P-L29.9-W8.4-H5.2-P0.80
footprint MINIPCIE
pins: 1, 2, 3, 4, 5, 6, 7, 8, 9, 10, 11, 12, 13, 14, 15, 16, 17, 18, 19, 20, 21, 22, 23, 24, 25, 26, 27, 28, 29, 30, 31, 32, 33, 34, 35, 36, 37, 38, 39, 40, 41, 42, 43, 44, 45, 46, 47, 48, 49, 50, 51, 52

## MM32SPIN27PS_CoreBoard
designator U?
逐飞科技 MM32SPIN27PS核心板
footprint MM32SPIN27PS_CoreBoard (Footprint not found)
pins: 1 GND, 2 5V, 3 GND, 4 3V3, 5 A12, 6 A11, 7 D3, 8 D2, 9 C10, 10 A15, 11 C12, 12 C11, 13 B3, 14 D6, 15 B5, 16 B4, 17 B7, 18 B6, 19 B9, 20 B8, 21 C13, 22 D7, 23 C15, 24 C14, 25 C1, 26 C0, 27 C3, 28 C2, 29 A0, 30 A1, 31 A2, 32 A3, 33 D4, 34 D5, 35 A4, 36 A5, 37 A6, 38 A7, 39 C4, 40 C5, 41 B0, 42 B1, 43 B2, 44 B10, 45 B11, 46 B12, 47 B13, 48 B14, 49 B15, 50 C6, 51 C7, 52 C8, 53 C9, 54 A8, 55 A9, 56 A10

## MOSFET_N
designator Q?, comment NCEP0178AK
MOSFET; Note: Pin 2 is electrically connected to pin 4.; Published: 8-Jun-2000; LatestRevisionDate: 17-Jul-2002; LatestRevisionNote: Re-released for DXP Platform.; DatasheetVersion: PD-9.814; PackageVersion: Feb-1997; PackageReference: TO-220AB; Publisher: Altium Limited; PackageDescription: TO, Thru-Hole, Vertical, Heatsink Mounted; 3 In-Line Leads; Pitch 2.54 mm; ComponentLink1Description: Manufacturer Link; ComponentLink1URL: http://www.irf.com/
footprint TO-252 (D-PAK/TO-252-AA; 3 Leads (1 Cropped); Body 10.3 (inc. leads) x 6.7 mm (LxW max))
footprint D2PAK-3 (D-PAK/TO-263-3; 3 Leads (1 Cropped); Body 14.7 (inc. leads) x 10.2 mm (LxW max))
footprint TO-252AA
pins: 1 G, 2 D, 3 S

## MP2236
designator U?
Contributor: sunhaoqin; link: https://www.monolithicpower.com/en/documentview/productdocument/index/version/2/document_type/Datasheet/lang/en/sku/MP2225GJ-Z/document_id/922/; spicePre: U; spiceSymbolName: MP2225GJ
footprint TSOT23-8
pins: 1 AGND, 2 IN, 3 SW, 4 GND, 5 BST, 6 EN/SYNC, 7 VCC, 8 FB
text: U1

## MR30PW-M30.G.Y
designator U?  (value not drawn)
Manufacturer: AMASS(艾迈斯); Add into BOM: yes; Symbol: MR30PW-M30.G.Y; Device: MR30PW-M30.G.Y; LCSC Part Name: AMASS(艾迈斯)三芯动力电池马达电调航模插头连接器 弯插公头 金黄H=3mm MR30PW-M30.G.Y; Supplier Part: C19268036; Manufacturer Part: MR30PW-M30.G.Y; Supplier Footprint: -; JLCPCB Part Class: Extended Part; Datasheet: https://item.szlcsc.com/datasheet/MR30PW-M30.G.Y/20526047.html; Supplier: LCSC; Convert to PCB: yes
footprint CONN-TH_MR30PW-M30-G-Y
3D model CONN-TH_MR30PW-M30-G-Y
pins: 1, 2, 3, 4, 5

## MT3410L
designator U?  (value not drawn)
功能类型:降压型;输入电压:2.3V~6V;输出电流(最大值):1.3A;; Manufacturer: 西安航天民芯; Add into BOM: yes; Function: 降压型; Synchronous Rectification: 是; Number of Outputs: 1; Topology: 降压式; Output Current (Max): 1.3A; Switching Frequency: 1.5MHz; Symbol: MT3410L; Device: MT3410L; LCSC Part Name: 降压型 输入2.3V~6V 1.3A; Supplier Part: C83223; Manufacturer Part: MT3410L; Supplier Footprint: SOT-23-5; JLCPCB Part Class: Extended Part; Datasheet: https://atta.szlcsc.com/upload/public/pdf/source/20161118/1479432907236.pdf; Supplier: LCSC; Convert to PCB: yes; Input Voltage: 2.3V~6V; Quiescent Current (Iq): -; Operating Temperature: -40~+85@(TA)
footprint SOT-23-5_L2.9-W1.6-P0.95-LS2.8-BL
3D model SOT-23-5_L2.9-W1.6-P0.95-LS2.8-BL
pins: 1 EN, 2 GND, 3 SW, 4 VIN, 5 FB

## MTS-10x
designator S?
MTS10x系列3脚扭子开关; 版权归属: 源创客; BOM名称: MTS10x系列3脚扭子开关; 学习资源: www.ooocke.com
footprint MTS-10x (MTS10系列3脚扭子开关)
pins: 1, 2, 3

## N-MOS
designator Q?, comment IRF840
N沟场效应管; 版权归属: 源创客; BOM名称: N沟场效应管; 学习资源: www.ooocke.com
footprint TO220A (220，3脚晶体管)
footprint TO220B (220，3脚晶体管)
footprint TO220C (220，3脚晶体管)
footprint TO263-3B (263，3脚晶体管)
footprint TO263-3A (263，3脚晶体管)
footprint SI2302
footprint SOT-23-3_L2.9-W1.3-P1.90-LS2.4-BR
pins: 1 G, 2 D, 3 S

## N_MOSFET
designator Q?  (value not drawn)
BSC030N08NS5/BSC123N08NS3G
footprint TDSON-8 (TDSON, 8-Leads, Body 6.15x5.15mm, Pitch 1.27mm)
pins: 1 S, 2 S, 3 S, 4 G, 5 D, 6 D, 7 D, 8 D

## NCE4009S
designator Q?  (value not drawn)
数量:1个N沟道;漏源电压(Vdss):40V;连续漏极电流(Id):9A;导通电阻(RDS(on)):-;耗散功率(Pd):2W;阈值电压(Vgs(th)):2V@250uA;; Manufacturer: NCE(无锡新洁能); Add into BOM: yes; Number: 1个N沟道; Drain to Source Voltage: 40V; Current - Continuous Drain(Id): 9A; Pd - Power Dissipation: 2W; Type: N沟道; Symbol: NCE4009S; Device: NCE4009S; LCSC Part Name: 1个N沟道 耐压:40V 电流:9A; Supplier Part: C189610; Manufacturer Part: NCE4009S; Supplier Footprint: SOIC-8; JLCPCB Part Class: Extended Part; Datasheet: https://item.szlcsc.com/datasheet/NCE4009S/201612.html; Supplier: LCSC; Convert to PCB: yes; RDS(on): -; Gate Threshold Voltage (Vgs(th)): 2V@250uA; Gate Charge(Qg): -; Input Capacitance(Ciss): -; Reverse Transfer Capacitance (Crss@Vds): -; Operating Temperature: -55~+150; Output Capacitance(Coss): -
footprint SOIC-8_L5.0-W4.0-P1.27-LS6.0-BL
3D model SOIC-8_L4.9-W3.9-H1.7-LS6.0-P1.27
pins: 1 S, 2 S, 3 S, 4 G, 5 D, 6 D, 7 D, 8 D

## NCEP0160AG
designator Q?  (value not drawn)
数量:1个N沟道;漏源电压(Vdss):100V;连续漏极电流(Id):60A;导通电阻(RDS(on)):11mΩ@4.5V,30A;耗散功率(Pd):105W;阈值电压(Vgs(th)):1V;; Manufacturer: NCE(无锡新洁能); Add into BOM: yes; Number: 1个N沟道; Drain to Source Voltage: 100V; Current - Continuous Drain(Id): 60A; Pd - Power Dissipation: 105W; Gate Threshold Voltage (Vgs(th)): 1V; Gate Charge(Qg): 65nC@50V; Input Capacitance(Ciss): 4.2nF@50V; Reverse Transfer Capacitance (Crss@Vds): 23pF; Symbol: NCEP0160AG; Device: NCEP0160AG; LCSC Part Name: 1个N沟道 耐压:100V 电流:60A; Supplier Part: C503012; Manufacturer Part: NCEP0160AG; Supplier Footprint: DFN5X6-8L; JLCPCB Part Class: Extended Part; Datasheet: https://item.szlcsc.com/datasheet/NCEP0160AG/515533.html; Supplier: LCSC; Convert to PCB: yes; RDS(on): 11mΩ@4.5V,30A; Operating Temperature: -55~+150
footprint DFN-5_L4.9-W5.9-P1.27-LS6.2-BL
3D model DFN-5_L4.9-W5.9-H1.0-P1.27-LS6.2-BL
pins: 1 S, 2 S, 3 S, 4 G, 5 D

## NPN
designator Q?, comment 44H11
NPN型; BOM名称: 互补功率-NPN型; 版权归属: 源创客; 属性: 80V 8A 50W; 学习资源: www.ooocke.com
footprint TO252 (252晶体管)
footprint TO251A (251，3脚晶体管)
footprint TO251B (251，3脚晶体管)
footprint SI2302
pins: 1 B, 2 C, 3 E

## OLED 1.3-12864_7pin
designator OLED?
12864 点阵屏; 版权归属: 源创客; BOM名称: 12864 点阵屏; 学习资源: www.ooocke.com
footprint OLED 1.3-12864_7pin
pins: 1 GND, 2 VCC, 3 D0, 4 D1, 5 RST, 6 DC, 7 CS

## OPA2350
designator U?
运放芯片; Published: 17-Jul-2002; LatestRevisionDate: 13-Apr-2006; LatestRevisionNote: IPC-7351 Footprint Added.; DatasheetVersion: 1988; PackageReference: 751-02; Publisher: Altium Limited; PackageDescription: 8-Pin Small Outline Integrated Circuit 1.27 mm Pitch; Code_JEDEC: MS-012-AA; Code_IPC: SOIC127P600-8; ComponentLink1Description: Manufacturer Link; ComponentLink1URL: http://www.onsemi.com/site/products/parametrics/0,4446,251,00.html; ComponentLink2Description: Datasheet; ComponentLink2URL: http://www.onsemi.com/pub/Collateral/LM358-D.PDF
footprint SOP8 (（蒜米工坊）)
pins on every part: 4 V- (power), 8 V+ (power)
part A pins: 1 OUT (out), 2 IN- (in), 3 IN+ (in)
part B pins: 5 IN+ (in), 6 IN- (in), 7 OUT (out)

## OPA4377
designator U?
运放芯片
footprint TSSOP-14 (4.96x4.40x1.00 e=0.65（蒜米工坊）)
pins: 1 AOUT (out), 2 AIN- (in), 3 AIN+ (in), 4 V+ (power), 5 BIN+ (in), 6 BIN- (in), 7 BOUT (out), 8 COUT (out), 9 CIN- (in), 10 CIN+ (in), 11 V- (power), 12 DIN+ (in), 13 DIN- (in), 14 DOUT (out)

## P1.25_2P
designator CN?, comment 0533980271  (value not drawn)
插针结构:1x2P;间距:1.25mm;安装方式:立贴;行距:-;总PIN数:2P;排数:1;每排PIN数:2;参考系列:-;额定电流:-;触头材质:磷青铜;触头镀层:锡;工作温度范围:-;; Manufacturer: MOLEX; Add into BOM: yes; Pins Structure: 1x2P; Pitch: 1.25mm; Number of PINs Per Row: 2; Symbol: 0533980271; Device: 0533980271; LCSC Part Name: 1x2P 间距:1.25mm 立贴; Supplier Part: C122410; Manufacturer Part: 0533980271; Supplier Footprint: SMD,P=1.25mm; JLCPCB Part Class: Extended Part; Datasheet: https://atta.szlcsc.com/upload/public/pdf/source/20170721/C122410_1500619309943834053.pdf; Supplier: LCSC; Convert to PCB: yes; Mounting Style: 立贴; Row Spacing: -; Number of Pins: 2P; Number of Rows: 1; Reference Series: -; Current Rating (Max): -; Contact Material: 磷青铜; Contact Plating: 锡; Operating Temperature Range: -
footprint CONN-SMD_2P-P1.25_053398-0X71
3D model CONN-SMD_2P-P1.25_053398-0X71
pins: 1, 2, 3, 4

## P-MOS
designator Q?, comment IRF540
P沟场效应管; 版权归属: 源创客; BOM名称: P沟场效应管; 学习资源: www.ooocke.com
footprint TO263-3A (263，3脚晶体管)
footprint TO263-3B (263，3脚晶体管)
footprint SI2302
pins: 1 G, 2 D, 3 S

## PAD_S_2.54_2*5
designator P?  (value not drawn)
Add into BOM: yes; Symbol: PAD_S_2.54_2*5; Device: PAD_S_2.54_2*5; Convert to PCB: yes
footprint PAD_S_2.54_2*5
pins: 1, 2, 3, 4, 5, 6, 7, 8, 9, 10

## PCIE-52P52H_C266899
designator CARD?  (value not drawn)
连接器类型:mPCI-E;间距:0.8mm;引脚总数:52P;安装方式:卧贴;工作温度范围:-40~+85;; Manufacturer: XUNPU(讯普); Add into BOM: yes; Connector Type: mPCI-E; Pitch: 0.8mm; Symbol: PCIE-52P52H; Device: PCIE-52P52H_C266899; LCSC Part Name: 0.8mm P数:52P; Supplier Part: C266899; Manufacturer Part: PCIE-52P52H; Supplier Footprint: SMD,P=0.8mm; JLCPCB Part Class: Extended Part; Datasheet: https://atta.szlcsc.com/upload/public/pdf/source/20180820/C266899_13151B17022951BC233387EA8773A9D6.pdf; Supplier: LCSC; Convert to PCB: yes; Number of Pins: 52P; Mounting Style: 卧贴; Height Above Board: 5.2mm; Operating Temperature Range: -40~+85
3D model CONN-SMD_ 52P-L29.9-W8.4-H5.2-P0.80
footprint PCIE_52P
pins: 1, 2, 3, 4, 5, 6, 7, 8, 9, 10, 11, 12, 13, 14, 15, 16, 17, 18, 19, 20, 21, 22, 23, 24, 25, 26, 27, 28, 29, 30, 31, 32, 33, 34, 35, 36, 37, 38, 39, 40, 41, 42, 43, 44, 45, 46, 47, 48, 49, 50, 51, 52, 53, 54

## PESD5V0L
designator D?  (value not drawn)
Manufacturer: Applied Power(应能微); Add into BOM: yes; Symbol: PESD5V0L; Device: PESD5V0L; LCSC Part Name: PESD5V0L; Supplier Part: C712145; Manufacturer Part: PESD5V0L; Supplier Footprint: DFN1006-2; JLCPCB Part Class: Extended Part; Datasheet: https://atta.szlcsc.com/upload/public/pdf/source/20200812/C712145_FBFA4F654A16C303C485C7B80C843A00.pdf; Supplier: LCSC; Convert to PCB: yes
footprint DFN1006-2L-BI
3D model DFN1006-2L-BI
pins: 1, 2

## PH2.0-8P
designator J?
footprint PH2.0WS-8P
pins: 1, 2, 3, 4, 5, 6, 7, 8

## PMBT3904,215
designator Q?  (value not drawn)
晶体管类型:NPN;集电极电流(Ic):200mA;集射极击穿电压(Vceo):40V;功率(Pd):250mW;直流电流增益(hFE@Ic,Vce):100@10mA,1V;; Manufacturer: Nexperia(安世); Add into BOM: yes; Transistor Type: NPN; Collector Current (Ic): 200mA; Collector-Emitter Breakdown Voltage (Vceo): 40V; Power Dissipation (Pd): 250mW; Transition Frequency (fT): 300MHz; Collector Cut-Off Current (Icbo): 50nA; Collector-Emitter Saturation Voltage (VCE(sat)@Ic,Ib): 300mV@50mA,5mA; Symbol: PMBT3904,215; Device: PMBT3904,215; LCSC Part Name: NPN 电流:200mA 耐压:40V; Supplier Part: C8667; Manufacturer Part: PMBT3904,215; Supplier Footprint: SOT-23; JLCPCB Part Class: Extended Part; Datasheet: https://atta.szlcsc.com/upload/public/pdf/source/20210520/C8667_82CC4B18F957EC74ED6E8B4E120941E6.pdf; Supplier: LCSC; Convert to PCB: yes; DC Current Gain (hFE@Ic,Vce): 100@10mA,1V; Operating Temperature: -
footprint SOT-23_L2.9-W1.3-P1.90-LS2.4-BR
3D model SOT-23-3P_L2.9-W1.3-H1.0-LS2.4-P0.95
pins: 1, 2, 3

## PMBT3906,215
designator Q?  (value not drawn)
晶体管类型:PNP;集电极电流(Ic):200mA;集射极击穿电压(Vceo):40V;功率(Pd):250mW;直流电流增益(hFE@Ic,Vce):100@10mA,1V;; Manufacturer: Nexperia(安世); Add into BOM: yes; Transistor Type: PNP; Collector Current (Ic): 200mA; Collector-Emitter Breakdown Voltage (Vceo): 40V; Power Dissipation (Pd): 250mW; Transition Frequency (fT): 250MHz; Collector Cut-Off Current (Icbo): 50nA; Collector-Emitter Saturation Voltage (VCE(sat)@Ic,Ib): 400mV@50mA,5mA; Symbol: PMBT3906,215; Device: PMBT3906,215; LCSC Part Name: PNP 电流:200mA 耐压:40V; Supplier Part: C8670; Manufacturer Part: PMBT3906,215; Supplier Footprint: SOT-23; JLCPCB Part Class: Extended Part; Datasheet: https://atta.szlcsc.com/upload/public/pdf/source/20130412/1457706600965.pdf; Supplier: LCSC; Convert to PCB: yes; DC Current Gain (hFE@Ic,Vce): 100@10mA,1V; Operating Temperature: -
footprint SOT-23-3_L2.9-W1.3-P1.90-LS2.4-BR
3D model SOT-23-3P_L2.9-W1.3-H1.0-LS2.4-P0.95
pins: 1 B, 2 E, 3 C

## PNP
designator Q?, comment 45H11
PNP型; BOM名称: 互补功率-PNP型; 版权归属: 源创客; 属性: 80V 8A 50W; 学习资源: www.ooocke.com
footprint TO252 (252晶体管)
footprint TO251A (251，3脚晶体管)
footprint TO251B (251，3脚晶体管)
footprint SI2302
pins: 1 B, 2 C, 3 E

## POWER
designator P?
电源接口
footprint XT30 (电源接口)
footprint XT60
footprint T-电源插口
footprint DC_IN
pins: 1 +, 2 G

## POWER_1
designator P?, comment 7.4v输入
电源接口
footprint XT30 (电源接口)
footprint XT60
footprint T-电源插口
footprint DC_IN
footprint XT30PW-M
pins: 1 +, 2 G

## POWER_1_1
designator P?, comment 7.4v输入
电源接口
footprint XT30 (电源接口)
footprint XT60
footprint T-电源插口
footprint DC_IN
footprint XT30PW-M
pins: 1 +, 2 G

## POWER_2
designator P?, comment 输出1
电源接口
footprint XT30 (电源接口)
footprint XT60
footprint T-电源插口
footprint DC_IN
footprint XT30PW-M
pins: 1 +, 2 G

## POWER_3
designator P?, comment 输出1
电源接口
footprint XT30 (电源接口)
footprint XT60
footprint T-电源插口
footprint DC_IN
footprint XT30PW-M
pins: 1 +, 2 G

## PT4115_C347356
designator U?, comment -
Manufacturer: UMW(广东友台半导体); Symbol: PT4115; Device: PT4115_C347356; Add into BOM: yes; LCSC Part Name: PT4115; Supplier Part: C347356; Manufacturer Part: PT4115; Supplier Footprint: SOT89-5; JLCPCB Part Class: Extended Part; Datasheet: https://atta.szlcsc.com/upload/public/pdf/source/20181213/C347356_53B4879F3B07AA7232DB5B3B76FA68B1.pdf; Supplier: LCSC; Convert to PCB: yes; Type: -; Topology: -; Internal Switch(s): -; Number of Outputs: -; Supply Voltage (Min): -; Supply Voltage (Max): -; Output Voltage: -; Output / Channel Current: -; Dimming Control: -; Value: -; Operating Temperature: -; Name: -
footprint SOT-89-5_L4.5-W2.5-P1.50-LS4.5-BR
pins: 1 SW, 2 GND, 3 DIM, 4 CSN, 5 VIN

## R
designator R?, comment 1K
电阻; BOM名称: 贴片电阻; 版权归属: 源创客; 学习资源: www.ooocke.com
footprint 0603R
footprint 0805R
footprint 1206R
footprint 2010R
footprint 2512R
footprint AXIAL0.6-1W (脚距15mm，直径4mm)
footprint R0402
pins: 1, 2

## R_1
designator R?, comment 510
电阻; BOM名称: 贴片电阻; 版权归属: 源创客; 学习资源: www.ooocke.com
footprint 0603R
footprint 0805R
footprint 1206R
footprint 2010R
footprint 2512R
footprint AXIAL0.6-1W (脚距15mm，直径4mm)
footprint C0805
footprint R0402
pins: 1, 2

## REF3033AIDBZR
designator U?  (value not drawn)
输出类型:固定;工作电压:3.35V~5.5V;输出电压:3.3V;输出电流:25mA;精度:±0.2%;; Manufacturer: TI(德州仪器); Add into BOM: yes; Output Type: 固定; Output Voltage: 3.3V; Output Current: 25mA; Tolerance: ±0.2%; Temperature Coefficient: 75ppm/; Reference Type: 串联; Quiescent Current: 50uA; Noise - 1/10Hz to 10Hz: 36uVp-p; Noise - 10Hz to 10kHz: 105uVrms; Symbol: REF3033AIDBZR; Device: REF3033AIDBZR; LCSC Part Name: 3.35V~5.5V 串联 50uA 75ppm/; Supplier Part: C36658; Manufacturer Part: REF3033AIDBZR; Supplier Footprint: SOT-23; JLCPCB Part Class: Extended Part; Datasheet: https://www.ti.com/lit/ds/symlink/ref30.pdf; Supplier: LCSC; Convert to PCB: yes; Voltage - Supply: 3.35V~5.5V; Minimum Cathode Current for Regulation: -; Operating Temperature: -40~+125@(Ta)
footprint SOT-23-3_L3.0-W1.7-P0.95-LS2.9-BR
3D model SOT-23-3L_L2.9-W1.6-H1.1-LS2.8-P0.95
pins: 1 IN, 2 OUT, 3 GND

## RES
designator R?, comment 1K
footprint AXIAL0.3
footprint AXIAL0.4
footprint AXIAL0.5
footprint LQ_R0603
pins: 1, 2

## Res1
designator R?  value 30K  (hidden comment: Res1)
电阻; Published: 8-Jun-2000; LatestRevisionDate: 17-Jul-2002; LatestRevisionNote: Re-released for DXP Platform.; PackageReference: AXIAL-0.4; Publisher: Altium Limited
footprint R 0201 (1/20W贴片电阻)
footprint R 0402 (1/16W贴片电阻)
footprint R 0603 (1/10W贴片电阻)
footprint R 0805 (1/8W贴片电阻)
footprint R 1206 (1/4W贴片电阻)
footprint R 1210 (1/3W贴片电阻)
footprint R 1812 (1/2W贴片电阻)
footprint R 2010 (3/4W贴片电阻)
footprint R 2512 (1W贴片电阻)
footprint R_10mm-1mm (10mm脚距，1mm直径康铜丝采样电阻)
footprint R_15mm-1.8mm (15mm脚距，1.8mm直径康铜丝采样电阻)
footprint R 3920 (5W贴片电阻)
footprint R 2725 (4W贴片电阻)
footprint R_DD (10mm脚距)
footprint RES_0603
pins: 1, 2

## Res1_1
designator R?, comment value 4.7K  (hidden comment: Res1)
电阻; Published: 8-Jun-2000; LatestRevisionDate: 17-Jul-2002; LatestRevisionNote: Re-released for DXP Platform.; PackageReference: AXIAL-0.4; Publisher: Altium Limited
footprint R 0201 (1/20W贴片电阻)
footprint R 0402 (1/16W贴片电阻)
footprint R 0603 (1/10W贴片电阻)
footprint R 0805 (1/8W贴片电阻)
footprint R 1206 (1/4W贴片电阻)
footprint R 1210 (1/3W贴片电阻)
footprint R 1812 (1/2W贴片电阻)
footprint R 2010 (3/4W贴片电阻)
footprint R 2512 (1W贴片电阻)
footprint R_10mm-1mm (10mm脚距，1mm直径康铜丝采样电阻)
footprint R_15mm-1.8mm (15mm脚距，1.8mm直径康铜丝采样电阻)
footprint R 3920 (5W贴片电阻)
footprint R 2725 (4W贴片电阻)
footprint R_DD (10mm脚距)
footprint RES_0603
pins: 1, 2

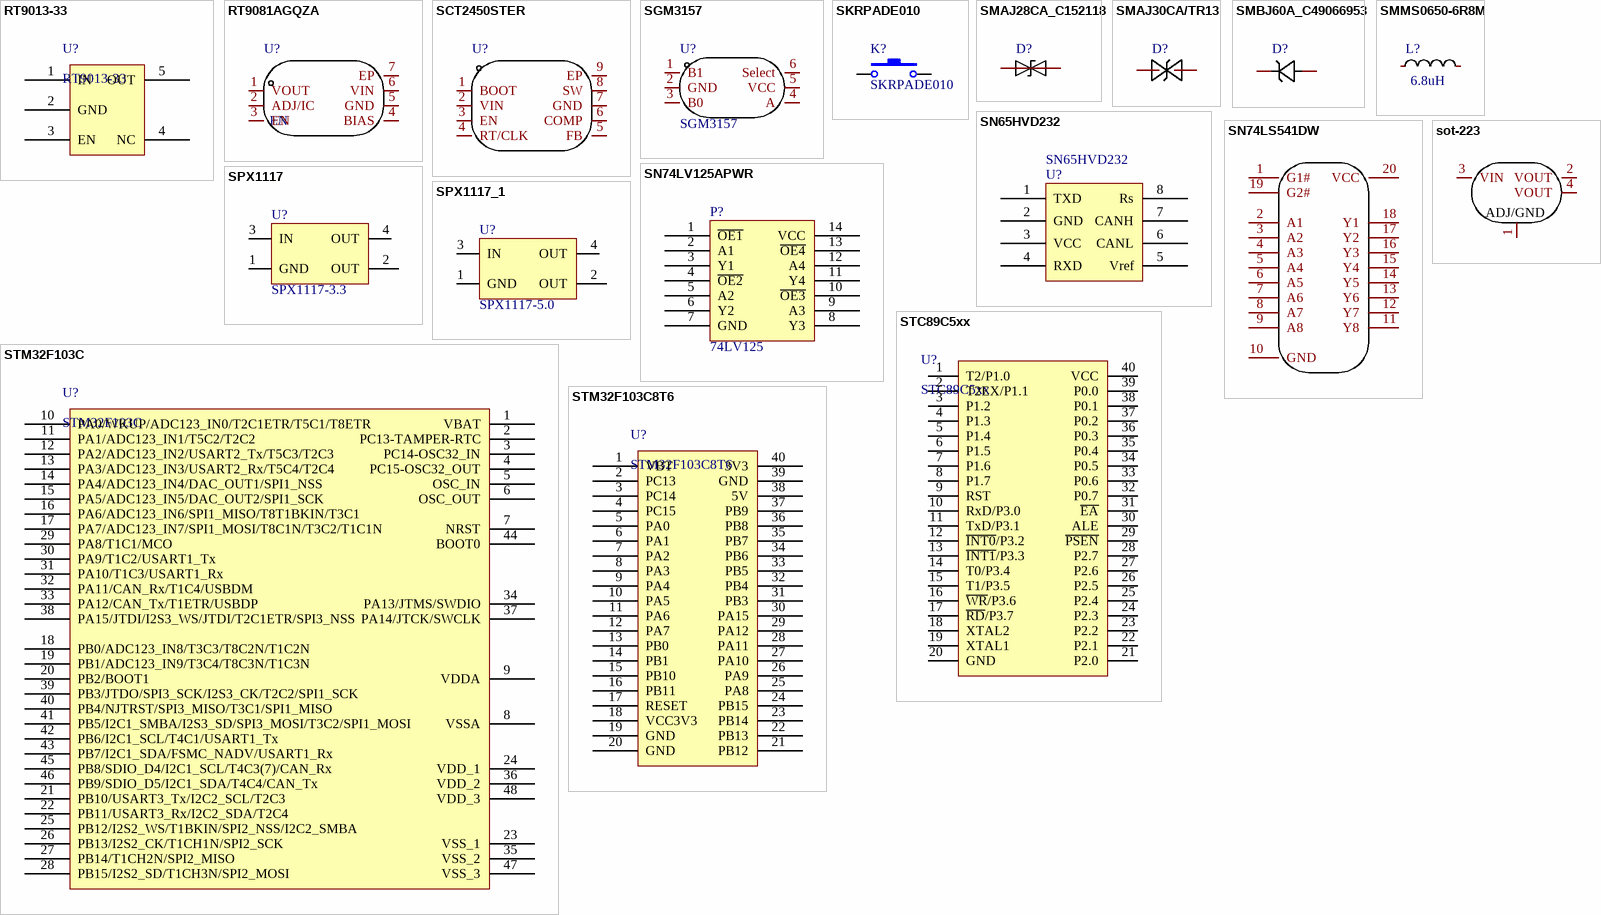
[diagram p5: symbols RT9013-33 to STM32F103C8T6]

## RT9013-33
designator U?
3.3V降压 500mA 最大输入5.5V
footprint SOT23-5M (3x1.6x1.1mm(长宽高))
pins: 1 IN, 2 GND, 3 EN, 4 NC, 5 OUT

## RT9081AGQZA
designator U?  NAME: EN  (hidden comment: RT9081AGQZA)
输出类型:可调;工作电压:5.5V;输出电压:800mV~3.6V;输出电流:500mA;电源纹波抑制比(PSRR):70dB@(1kHz);输出极性:正极;; Manufacturer: RICHTEK(立锜); Add into BOM: yes; Output Type: 可调; Voltage - Supply: 5.5V; Output Current: 500mA; Voltage Dropout: 250mV@(500mA); standby current: 110uA; Output Configuration: 正极; Number of Outputs: 1; Symbol: RT9081AGQZA; Device: RT9081AGQZA; LCSC Part Name: RT9081AGQZA; Supplier Part: C2962576; Manufacturer Part: RT9081AGQZA; Supplier Footprint: ZADFN-6-EP(1.2x1.2); JLCPCB Part Class: Extended Part; Datasheet: https://item.szlcsc.com/datasheet/RT9081AGQZA/3353285.html; Supplier: LCSC; Convert to PCB: yes; Output Voltage: 800mV~3.6V; Power Supply Rejection Ratio (PSRR): 70dB@(1kHz); Noise: -; Features: 带使能；过热保护；过流保护；短路保护; Operating Temperature: -40~+125@(Tj)
footprint ZADFN-6_L1.2-W1.2-P0.40-BL-EP
3D model ZADFN-6_L1.2-W1.2-P0.40-BL-EP
pins: 1 VOUT, 2 ADJ/IC, 3 EN, 4 BIAS, 5 GND, 6 VIN, 7 EP

## SCT2450STER
designator U?  (value not drawn)
Manufacturer: SCT(芯洲科技); Add into BOM: yes; Symbol: SCT2450STER; Device: SCT2450STER; LCSC Part Name: 电源IC; Supplier Part: C509400; Manufacturer Part: SCT2450STER; Supplier Footprint: ESOP-8; JLCPCB Part Class: Extended Part; Datasheet: https://atta.szlcsc.com/upload/public/pdf/source/20200407/C509400_EDF779A672A59398CFBA9E95FA584FEC.pdf; Supplier: LCSC; Convert to PCB: yes
footprint ESOP-8_L4.9-W3.9-P1.27-LS6.0-BL-EP
3D model ESOP-8_L4.9-W3.9-H1.6-LS6.0-P1.27
pins: 1 BOOT, 2 VIN, 3 EN, 4 RT/CLK, 5 FB, 6 COMP, 7 GND, 8 SW, 9 EP

## SGM3157
designator U?
Manufacturer: UMW(广东友台半导体); Add into BOM: yes; Symbol: SGM3157; Device: SGM3157; Supplier: LCSC; Supplier Part: C394901; Manufacturer Part: SGM3157; JLCPCB Part Class: 扩展库; LCSC Part Name: 二选一模拟开关电路; Supplier Footprint: SC-70-6; Datasheet: https://atta.szlcsc.com/upload/public/pdf/source/20220825/163C0318ED3C3969CBD04552300499AD.pdf; Convert to PCB: yes; Switch Circuit: -; Name: SGM3157
footprint SC-70-6_L2.2-W1.3-P0.65-LS2.1-BL
pins: 1 B1, 2 GND, 3 B0, 4 A, 5 VCC, 6 Select

## SKRPADE010
designator K?
footprint SKRPADE010
pins: 1, 2

## SMAJ28CA_C152118
designator D?  (value not drawn)
反向截止电压(Vrwm):28V;最大钳位电压:45.4V;峰值脉冲电流(Ipp)@10/1000us:8.8A;击穿电压:31.1V;; Manufacturer: BORN(伯恩半导体); Add into BOM: yes; Reverse Stand-Off Voltage (Vrwm): 28V; Maximum Clamping Voltage: 45.4V; Peak Pulse Current (Ipp)@10/1000us: 8.8A; Breakdown Voltage: 31.1V; Reverse Leakage Current (Ir): 1uA; Symbol: SMAJ28CA_C152118; Device: SMAJ28CA_C152118; LCSC Part Name: 双向TVS 28V截止 8.8A峰值脉冲; Supplier Part: C152118; Manufacturer Part: SMAJ28CA; Supplier Footprint: SMA(DO-214AC); JLCPCB Part Class: Extended Part; Datasheet: https://atta.szlcsc.com/upload/public/pdf/source/20180207/C152118_15179949395501359153.pdf; Supplier: LCSC; Convert to PCB: yes
footprint SMA_L4.4-W2.6-LS5.0-BI
3D model SMA_L4.3-W2.5-H2.1-LS5.0
pins: 1 K, 2 A

## SMAJ30CA/TR13
designator D?  (value not drawn)
反向截止电压(Vrwm):30V;最大钳位电压:48.4V;峰值脉冲电流(Ipp)@10/1000us:8.3A;峰值脉冲功率(Ppp)@10/1000us:400W;击穿电压:33.3V;; Manufacturer: Brightking(君耀电子); Add into BOM: yes; Reverse Stand-Off Voltage (Vrwm): 30V; Maximum Clamping Voltage: 48.4V; Peak Pulse Current (Ipp)@10/1000us: 8.3A; Peak Pulse Power Dissipation (Ppp)@10/1000us: 400W; Breakdown Voltage: 33.3V; Reverse Leakage Current (Ir): 1uA; Type: TVS; Symbol: SMAJ30CA/TR13; Device: SMAJ30CA/TR13; LCSC Part Name: 双向TVS 30V截止 8.3A峰值脉冲; Supplier Part: C2926823; Manufacturer Part: SMAJ30CA/TR13; Supplier Footprint: SMA(DO-214AC); JLCPCB Part Class: Extended Part; Datasheet: https://atta.szlcsc.com/upload/public/pdf/source/20210525/C2833648_5F679CBE9CA069BB1760CA3D8FAF0B93.pdf; Supplier: LCSC; Convert to PCB: yes
footprint SMA_L4.5-W2.6-LS5.1-BI (Footprint not found)
3D model SMA_L4.5-W2.6-LS5.1-BI
pins: 1, 2

## SMBJ60A_C49066953
designator D?  (value not drawn)
极性:单向;反向截止电压(Vrwm):60V;钳位电压:96.8V;峰值脉冲电流(Ipp):6.2A;峰值脉冲功率(Ppp):600W;击穿电压:73.7V;; Manufacturer: R+O(宏嘉诚); Add into BOM: yes; Polarity: 单向; Reverse Stand-Off Voltage (Vrwm): 60V; Clamping Voltage: 96.8V; Peak Pulse Current (Ipp): 6.2A; Peak Pulse Power Dissipation (Ppp): 600W; Voltage - Breakdown: 73.7V; Reverse Leakage Current (Ir): 5uA; Number of Channels: 单路; level of protection: IEC 61000-4-2; Type: TVS; Symbol: SMBJ60A_C49066953; Device: SMBJ60A_C49066953; LCSC Part Name: 单向TVS 60V截止 峰值浪涌电流：6.2A; Supplier Part: C49066953; Manufacturer Part: SMBJ60A; Supplier Footprint: SMB(DO-214AA); Datasheet: https://item.szlcsc.com/datasheet/SMBJ60A/51438149.html; Supplier: LCSC; Convert to PCB: yes; Operating Temperature: -55~+150
footprint SMB_L4.5-W3.7-LS5.4-RD
3D model SMB_L4.5-W3.7-LS5.4-RD
pins: 1 K, 2 A

## SMMS0650-6R8M
designator L?  value 6.8uH  (hidden comment: SMMS0650-6R8M)
电感值:6.8uH;精度:±20%;额定电流:5.5A;直流电阻(DCR):41mΩ;; Manufacturer: SXN(顺翔诺); Add into BOM: yes; Tolerance: ±20%; Rated Current: 5.5A; DC Resistance (DCR): 41mΩ; Symbol: SMMS0650-6R8M; Device: SMMS0650-6R8M; LCSC Part Name: 6.8uH ±20% 5.5A 41mΩ; Supplier Part: C149583; Manufacturer Part: SMMS0650-6R8M; Supplier Footprint: SMD,7.1x6.6x5mm; JLCPCB Part Class: Extended Part; Datasheet: https://atta.szlcsc.com/upload/public/pdf/source/20210810/BBF24330FB2F5029F637830BA9C42C0D.pdf; Supplier: LCSC; Convert to PCB: yes
footprint IND-SMD_L7.1-W6.6
3D model IND-SMD_L6.6-W7.1-H3.0
pins: 1, 2

## SN65HVD232
designator U?
footprint SOIC_8 (SOIC, 8-Leads, Body 5.3x5.4mm (max), Pitch 1.27mm, IPC Medium Density)
pins: 1 TXD, 2 GND, 3 VCC, 4 RXD, 5 Vref, 6 CANL, 7 CANH, 8 Rs

## SN74LS541DW
designator U??  (value not drawn)
Manufacturer: TI(德州仪器); Symbol: SN74LS541DW_C134124; Add into BOM: yes; Logic Type: 缓冲器，非反向; Number of Elements: 1; Number of Bits per Element: 8; Output Type: 三态; Current - Output High, Low: 15mA、24mA; Voltage - Supply: 4.75V ~ 5.25V; Name: SN74LS541DW; Device: SN74LS541DW; LCSC Part Name: SN74LS541DW; Supplier Part: C134124; Manufacturer Part: SN74LS541DW; Supplier Footprint: SOIC-20_300mil; JLCPCB Part Class: Extended Part; Datasheet: https://atta.szlcsc.com/upload/public/pdf/source/20171026/C134124_15089840490671058901.pdf; Supplier: LCSC; Convert to PCB: yes; Series: 74LS; Input Type: -; Operating Temperature: 0℃~+70℃（TA）
3D model SOIC-20_L12.8-W7.5-H2.7-LS10.3-P1.27
footprint SN74LS541
pins: 1 G1#, 2 A1, 3 A2, 4 A3, 5 A4, 6 A5, 7 A6, 8 A7, 9 A8, 10 GND, 11 Y8, 12 Y7, 13 Y6, 14 Y5, 15 Y4, 16 Y3, 17 Y2, 18 Y1, 19 G2#, 20 VCC

## SN74LV125APWR
designator P?, comment 74LV125
电机隔离芯片
footprint TSSOP-14_L5.0-W4.4-P0.65-LS6.4-BL
pins: 1 ~{OE1}, 2 A1, 3 Y1, 4 ~{OE2}, 5 A2, 6 Y2, 7 GND, 8 Y3, 9 A3, 10 ~{OE3}, 11 Y4, 12 A4, 13 ~{OE4}, 14 VCC

## sot-223
designator ?, comment ZLDO1117QG50TA  (value not drawn)
Manufacturer: DIODES(美台); Add into BOM: yes; Symbol: ZLDO1117QG50TA; Device: ZLDO1117QG50TA; LCSC Part Name: ZLDO1117QG50TA; Supplier Part: C526778; Manufacturer Part: ZLDO1117QG50TA; Supplier Footprint: SOT-223; JLCPCB Part Class: Extended Part; Datasheet: https://atta.szlcsc.com/upload/public/pdf/source/20200515/C526778_6D474893D29915DF671E16CD14EB3DFD.pdf; Supplier: LCSC; Convert to PCB: yes; Output Type: -
3D model SOT-223-4P_L6.5-W3.5-H1.6-LS7.0-P2.30
pins: 1 ADJ/GND, 2 VOUT, 3 VIN, 4 VOUT

## SPX1117
designator U?, comment SPX1117-3.3
footprint AMS1117
footprint SOT223 (SOT223, 4-Leads, Body 6.7x7.3mm (max), Pitch 2.29mm, IPC Medium Density)
footprint SOT223 (SOT223, 4-Leads, Body 6.7x7.3mm (max), Pitch 2.29mm, IPC Medium Density)
pins: 1 GND, 2 OUT, 3 IN, 4 OUT

## SPX1117_1
designator U?, comment SPX1117-5.0
footprint AMS1117
footprint SOT-223
footprint SOT223 (SOT223, 4-Leads, Body 6.7x7.3mm (max), Pitch 2.29mm, IPC Medium Density)
pins: 1 GND, 2 OUT, 3 IN, 4 OUT

## STC89C5xx
designator U?
STC单片机; 版权归属: 源创客; BOM名称: STC单片机; 学习资源: www.ooocke.com
footprint STC89C52带座子 (40脚300mil直插集成电路（蒜米工坊）)
footprint DIP40 (40脚300mil直插集成电路（蒜米工坊）)
pins: 1 T2/P1.0, 2 T2EX/P1.1, 3 P1.2, 4 P1.3, 5 P1.4, 6 P1.5, 7 P1.6, 8 P1.7, 9 RST, 10 RxD/P3.0, 11 TxD/P3.1, 12 ~{INT0}/P3.2, 13 ~{INT1}/P3.3, 14 T0/P3.4, 15 T1/P3.5, 16 ~{WR}/P3.6, 17 ~{RD}/P3.7, 18 XTAL2, 19 XTAL1, 20 GND, 21 P2.0, 22 P2.1, 23 P2.2, 24 P2.3, 25 P2.4, 26 P2.5, 27 P2.6, 28 P2.7, 29 ~{PSEN}, 30 ALE, 31 ~{EA}, 32 P0.7, 33 P0.6, 34 P0.5, 35 P0.4, 36 P0.3, 37 P0.2, 38 P0.1, 39 P0.0, 40 VCC